# EAGLE library part LM2766 (library hotmetal)
Charge-pump VOLTAGE CONVERTER
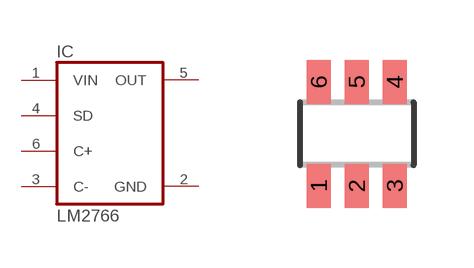
[diagram p3: symbol with the pads of SOT23-6; footprint SOT23-6]

Designator prefix IC

## LM2766  [SOT23-6]
1  VIN  pwr
2  GND  pwr
3  C-  pas
4  SD  in
5  OUT  sup
6  C+  pas

## Footprint SOT23-6 (pad centres in mm)
smd 0.6 x 1.1: 1 -0.95,-1.3; 2 0,-1.3; 3 0.95,-1.3; 4 0.95,1.3; 5 0,1.3; 6 -0.95,1.3